# Altium schematic symbol library EEG_SchLib.SchLib: 119 symbols
Pins are listed as number, name and electrical type; pins without a type are passive.

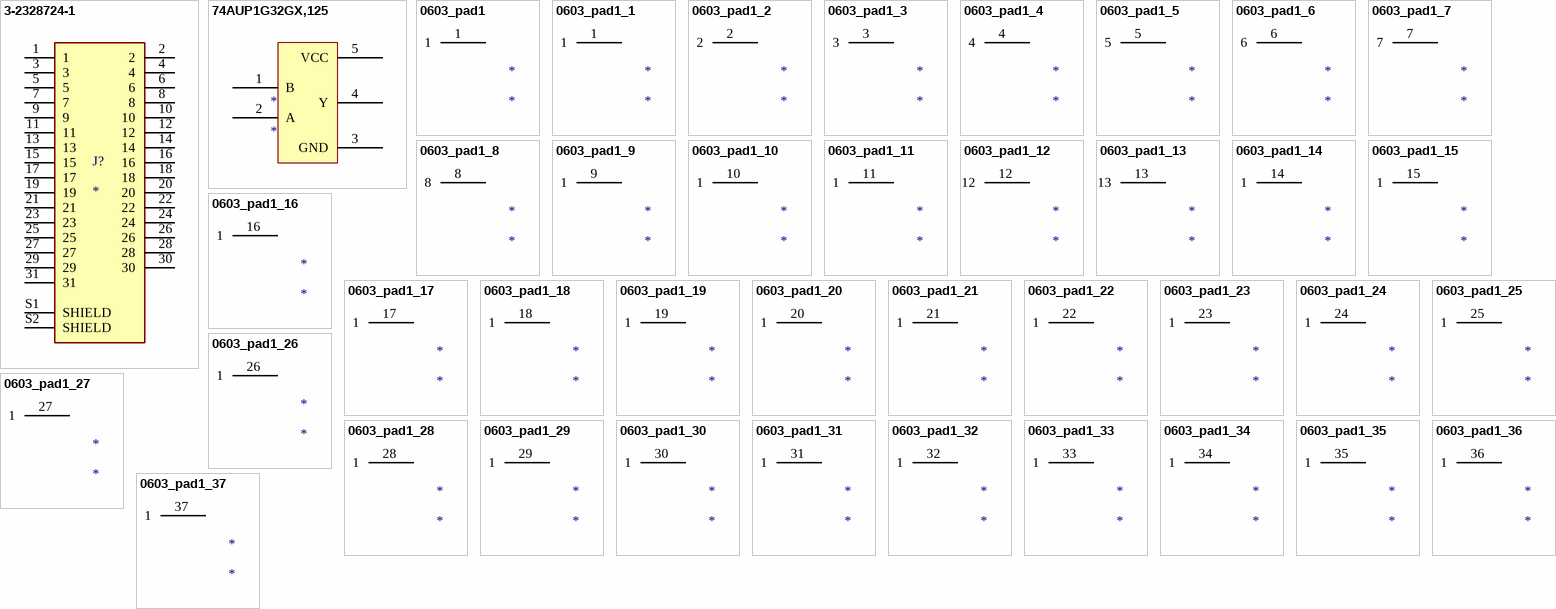
[diagram p0: symbols 3-2328724-1 to 0603_pad1_37]

## 3-2328724-1
designator J?
31 Position FPC Connector Contacts, Bottom 0.012 (0.30mm) Surface Mount, Right Angle; MP: 3-2328724-1; MF: TE Connectivity AMP Connectors; SnapEDA_Link: https://www.snapeda.com/parts/3-2328724-1/TE+Connectivity/view-part/?ref=snap; Price: None; Purchase-URL: https://pricing.snapeda.com/search/part/3-2328724-1/?ref=eda; Package: None; Availability: In Stock; Check_prices: https://www.snapeda.com/parts/3-2328724-1/TE+Connectivity/view-part/?ref=eda; Value: *
footprint TE_3-2328724-1
pins: 1, 2, 3, 4, 5, 6, 7, 8, 9, 10, 11, 12, 13, 14, 15, 16, 17, 18, 19, 20, 21, 22, 23, 24, 25, 26, 27, 28, 29, 30, 31, S1 SHIELD, S2 SHIELD

## 74AUP1G32GX,125
designator *
footprint SOT1226-3
pins: 1 B, 2 A, 3 GND (power), 4 Y, 5 VCC (power)

## 0603_pad1
designator *
footprint 0603_PAD_2 - duplicate1
pins: 1

## 0603_pad1_1
designator *
footprint 0603_PAD_2 - duplicate1
pins: 1

## 0603_pad1_2
designator *
footprint 0603_PAD_2 - duplicate2
pins: 2

## 0603_pad1_3
designator *
footprint 0603_PAD_2 - duplicate3
pins: 3

## 0603_pad1_4
designator *
footprint 0603_PAD_2 - duplicate4
pins: 4

## 0603_pad1_5
designator *
footprint 0603_PAD_2 - duplicate5
pins: 5

## 0603_pad1_6
designator *
footprint 0603_PAD_2 - duplicate6
pins: 6

## 0603_pad1_7
designator *
footprint 0603_PAD_2 - duplicate7
pins: 7

## 0603_pad1_8
designator *
footprint 0603_PAD_2 - duplicate8
pins: 8

## 0603_pad1_9
designator *
footprint 0603_PAD_2 - duplicate9
pins: 9 1

## 0603_pad1_10
designator *
footprint 0603_PAD_2 - duplicate10
pins: 10 1

## 0603_pad1_11
designator *
footprint 0603_PAD_2 - duplicate11
pins: 11 1

## 0603_pad1_12
designator *
footprint 0603_PAD_2 - duplicate12
pins: 12

## 0603_pad1_13
designator *
footprint 0603_PAD_2 - duplicate13
pins: 13

## 0603_pad1_14
designator *
footprint 0603_PAD_2 - duplicate14
pins: 14 1

## 0603_pad1_15
designator *
footprint 0603_PAD_2 - duplicate15
pins: 15 1

## 0603_pad1_16
designator *
footprint 0603_PAD_2 - duplicate16
pins: 16 1

## 0603_pad1_17
designator *
footprint 0603_PAD_2 - duplicate17
pins: 17 1

## 0603_pad1_18
designator *
footprint 0603_PAD_2 - duplicate18
pins: 18 1

## 0603_pad1_19
designator *
footprint 0603_PAD_2 - duplicate19
pins: 19 1

## 0603_pad1_20
designator *
footprint 0603_PAD_2 - duplicate20
pins: 20 1

## 0603_pad1_21
designator *
footprint 0603_PAD_2 - duplicate21
pins: 21 1

## 0603_pad1_22
designator *
footprint 0603_PAD_2 - duplicate22
pins: 22 1

## 0603_pad1_23
designator *
footprint 0603_PAD_2 - duplicate23
pins: 23 1

## 0603_pad1_24
designator *
footprint 0603_PAD_2 - duplicate24
pins: 24 1

## 0603_pad1_25
designator *
footprint 0603_PAD_2 - duplicate25
pins: 25 1

## 0603_pad1_26
designator *
footprint 0603_PAD_2 - duplicate26
pins: 26 1

## 0603_pad1_27
designator *
footprint 0603_PAD_2 - duplicate27
pins: 27 1

## 0603_pad1_28
designator *
footprint 0603_PAD_2 - duplicate28
pins: 28 1

## 0603_pad1_29
designator *
footprint 0603_PAD_2 - duplicate29
pins: 29 1

## 0603_pad1_30
designator *
footprint 0603_PAD_2 - duplicate30
pins: 30 1

## 0603_pad1_31
designator *
footprint 0603_PAD_2 - duplicate31
pins: 31 1

## 0603_pad1_32
designator *
footprint 0603_PAD_2 - duplicate32
pins: 32 1

## 0603_pad1_33
designator *
footprint 0603_PAD_2 - duplicate33
pins: 33 1

## 0603_pad1_34
designator *
footprint 0603_PAD_2 - duplicate34
pins: 34 1

## 0603_pad1_35
designator *
footprint 0603_PAD_2 - duplicate35
pins: 35 1

## 0603_pad1_36
designator *
footprint 0603_PAD_2 - duplicate36
pins: 36 1

## 0603_pad1_37
designator *
footprint 0603_PAD_2 - duplicate37
pins: 37 1

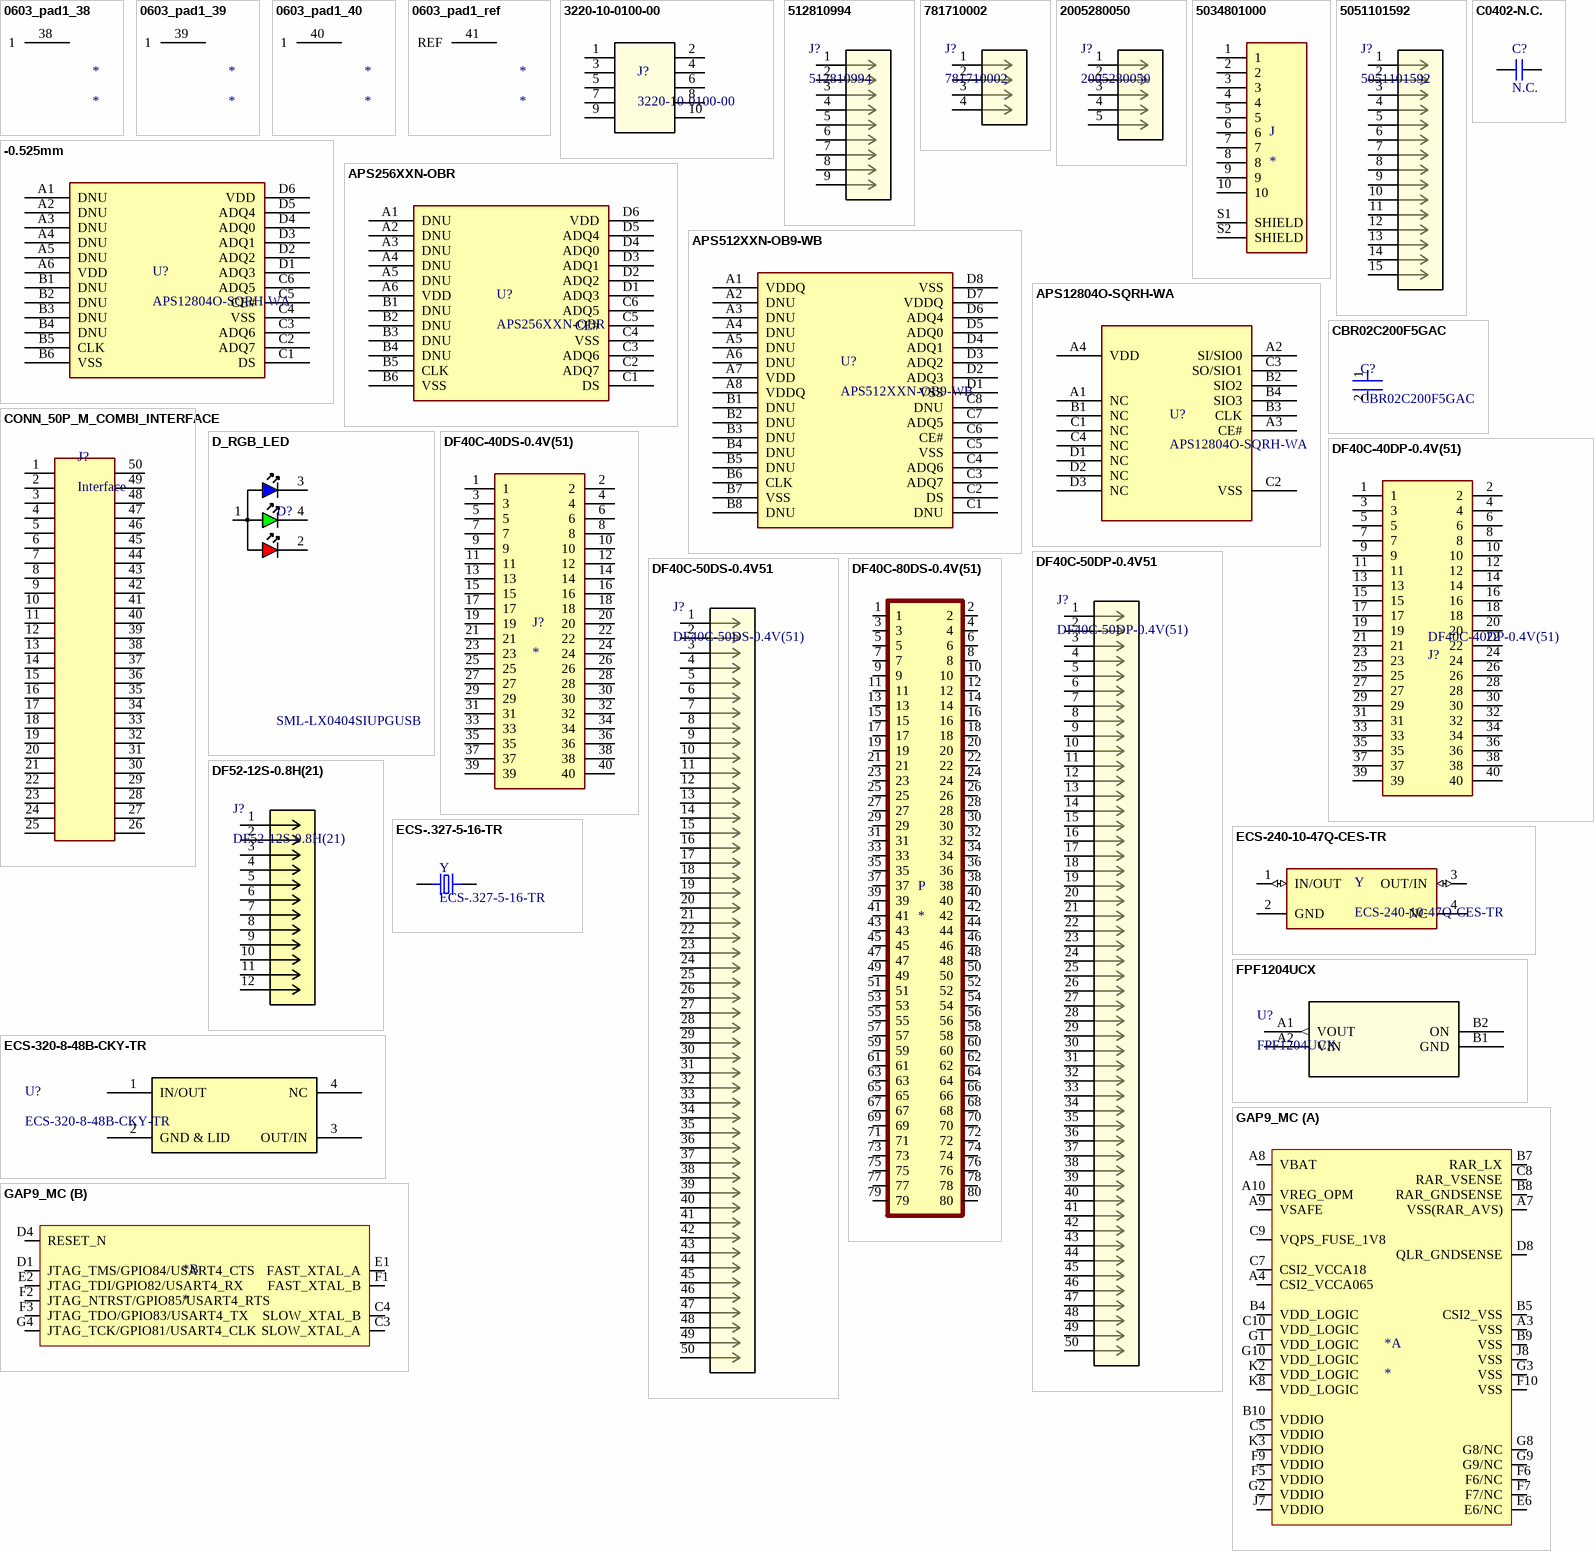
[diagram p1: symbols 0603_pad1_38 to GAP9_MC]

## 0603_pad1_38
designator *
footprint 0603_PAD_2 - duplicate38
pins: 38 1

## 0603_pad1_39
designator *
footprint 0603_PAD_2 - duplicate39
pins: 39 1

## 0603_pad1_40
designator *
footprint 0603_PAD_2 - duplicate40
pins: 40 1

## 0603_pad1_ref
designator *
footprint 0603_PAD_REF
pins: 41 REF

## 3220-10-0100-00
designator J?
No Description Available; Mfr_Name: CNC Tech; Copyright: Copyright (C) 2023 Ultra Librarian. All rights reserved.; Manufacturer_Part_Number: 3220-10-0100-00; RefDes: RefDes; Type: DEV
footprint CONN_3220-10-0100-00_CNC
pins: 1, 2, 3, 4, 5, 6, 7, 8, 9, 10

## 512810994
designator J?
No Description Available; Mfr_Name: Molex Connector Corporation; Copyright: Copyright (C) 2022 Ultra Librarian. All rights reserved.; Manufacturer_Part_Number: 512810994; RefDes: RefDes; Type: DEV
footprint CONN_51281-0994_MOL
pins: 1, 2, 3, 4, 5, 6, 7, 8, 9

## 781710002
designator J?
No Description Available; Mfr_Name: Molex Connector Corporation; Copyright: Copyright (C) 2022 Ultra Librarian. All rights reserved.; Manufacturer_Part_Number: 781710002; RefDes: RefDes; Type: DEV
footprint CON_781710002
pins: 1, 2, 3, 4

## 2005280050
designator J?
No Description Available; Mfr_Name: Molex Connector Corporation; Copyright: Copyright (C) 2022 Ultra Librarian. All rights reserved.; Manufacturer_Part_Number: 2005280050; RefDes: RefDes; Type: DEV
footprint CONN_200528-0050_MOL
pins: 1, 2, 3, 4, 5

## 5034801000
designator J
10 Position FFC, FPC Connector Contacts, Top and Bottom 0.020 _0.50mm_ Surface Mount, Right Angle; MF: Molex; MP: 5034801000; Digi-Key_Part_Number: WM1389CT-ND; Package: None; Digi-Key_Purchase_URL: https://www.digikey.com/product-detail/en/molex/5034801000/WM1389CT-ND/2356643?utm_source=snapeda&utm_medium=aggregator&utm_campaign=symbol; SnapEDA_Link: https://www.snapeda.com/parts/5034801000/Molex/view-part/2746786/?ref=snap; Value: *
footprint MOLEX_5034801000
pins: 1, 2, 3, 4, 5, 6, 7, 8, 9, 10, S1 SHIELD, S2 SHIELD

## 5051101592
designator J?
No Description Available; Mfr_Name: Molex Connector Corporation; Copyright: Copyright (C) 2022 Ultra Librarian. All rights reserved.; Manufacturer_Part_Number: 5051101592; RefDes: RefDes; Type: DEV
footprint CONN_505110-1592_MOL
pins: 1, 2, 3, 4, 5, 6, 7, 8, 9, 10, 11, 12, 13, 14, 15

## -0.525mm
designator U?, comment APS12804O-SQRH-WA
No Description Available; Mfr_Name: AP Memory; Manufacturer_Part_Number: APS256XXN-OBR-BG; Copyright: Copyright (C) 2022 Ultra Librarian. All rights reserved.; RefDes: RefDes; Type: DEV
footprint WLCSP24
pins: A1 DNU, A2 DNU, A3 DNU, A4 DNU, A5 DNU, A6 VDD, B1 DNU, B2 DNU, B3 DNU, B4 DNU, B5 CLK, B6 VSS, C1 DS, C2 ADQ7, C3 ADQ6, C4 VSS, C5 CE#, C6 ADQ5, D1 ADQ3, D2 ADQ2, D3 ADQ1, D4 ADQ0, D5 ADQ4, D6 VDD

## APS256XXN-OBR
designator U?
No Description Available; Mfr_Name: AP Memory; Manufacturer_Part_Number: APS256XXN-OBR-BG; Copyright: Copyright (C) 2022 Ultra Librarian. All rights reserved.; RefDes: RefDes; Type: DEV
footprint WLCSP24
pins: A1 DNU, A2 DNU, A3 DNU, A4 DNU, A5 DNU, A6 VDD, B1 DNU, B2 DNU, B3 DNU, B4 DNU, B5 CLK, B6 VSS, C1 DS, C2 ADQ7, C3 ADQ6, C4 VSS, C5 CE#, C6 ADQ5, D1 ADQ3, D2 ADQ2, D3 ADQ1, D4 ADQ0, D5 ADQ4, D6 VDD

## APS512XXN-OB9-WB
designator U?
512 Mbit octal SPI PSRAM APmemory; Copyright: Copyright (C) 2022 Ultra Librarian. All rights reserved.; Mfr_Name: AP Memory; Manufacturer_Part_Number: APS512XXN-OB9-WB; RefDes: RefDes; Type: DEV
footprint WLCSP32_APS512XXN-OB9-WB
pins: A1 VDDQ, A2 DNU, A3 DNU, A4 DNU, A5 DNU, A6 DNU, A7 VDD, A8 VDDQ, B1 DNU, B2 DNU, B3 DNU, B4 DNU, B5 DNU, B6 CLK, B7 VSS, B8 DNU, C1 DNU, C2 DS, C3 ADQ7, C4 ADQ6, C5 VSS, C6 CE#, C7 ADQ5, C8 DNU, D1 VSS, D2 ADQ3, D3 ADQ2, D4 ADQ1, D5 ADQ0, D6 ADQ4, D7 VDDQ, D8 VSS

## APS12804O-SQRH-WA
designator U?
QSPI PSRAM in WLCSP package / 144 MHz / 128 Mbit; Mfr_Name: AP Memory; Manufacturer_Part_Number: APS12804O-SQRH-WA
footprint APS12804O-SQRH-WA
pins: A1 NC, A2 SI/SIO0, A3 CE#, A4 VDD, B1 NC, B2 SIO2, B3 CLK, B4 SIO3, C1 NC, C2 VSS, C3 SO/SIO1, C4 NC, D1 NC, D2 NC, D3 NC

## C0402-N.C.
designator C?, comment N.C.
Not mounted; Part Number: C0402-N.C.; Note: Chip Cap; Artikkelnr Noca: N.A.; Manufacturer: *; Manufacturer Part Number: *; Datasheet: *; LatestRevisionDate: 2009-05-08; Pin Count: 2; Publisher: Nordic Semiconductor; Published: 2009-05-08; Value: N.C.; Supplier: *; Supplier part number: *; 2nd source Supplier: *; 2nd source part number: *; Footprint Doc: 0402; Artikkelnr Simpro: N.A.
footprint 0402
pins: 1, 2

## CBR02C200F5GAC
designator C?
No Description Available; Mfr_Name: Kemet; Type: DEV; Copyright: Copyright (C) 2022 Ultra Librarian. All rights reserved.; Manufacturer_Part_Number: CBR02C200F5GAC; RefDes: RefDes
footprint CAPC6333_33N_KEM-L
pins: 1, 2

## CONN_50P_M_COMBI_INTERFACE
designator J?, comment Interface
50Pin 0.4mm pitch connector footprint that accepts (male) connectors intended for different stacking heights: / Hirose - DF40C-50DP-0.4V(51) for 1.5mm - 3mm stacking height / JAE - WP7B-P050VA1-R8000 - for 0.7mm stacking height
footprint CONN_COMBI_50P (50Pin 0.4mm pitch connector footprint that accepts (male) connectors intended for different stacking heights:  Hirose - DF40C-50DP-0.4V(51) for 1.5mm - 3mm stacking height , JAE - WP7B-P050VA1-R8000 - for 0.7mm stacking height)
pins: 1, 2, 3, 4, 5, 6, 7, 8, 9, 10, 11, 12, 13, 14, 15, 16, 17, 18, 19, 20, 21, 22, 23, 24, 25, 26, 27, 28, 29, 30, 31, 32, 33, 34, 35, 36, 37, 38, 39, 40, 41, 42, 43, 44, 45, 46, 47, 48, 49, 50

## D_RGB_LED
designator D?, comment SML-LX0404SIUPGUSB
SML-LX0404SIUPGUSB RGB LED; Manufacturer: Lumex; Supplier 1: Mouser; Manufacturer Part Number: SML-LX0404SIUPGUSB; Supplier Part Number 1: 696-LX0404SIUPGUSB
footprint SML-LX0404SIUPGUSB
pins: 1 Common Anode, 2 Red C, 3 Blue C, 4 Green C

## DF40C-40DP-0.4V(51)
designator J?
CONN PLUG 40POS SMD GOLD; Number of Contacts: 40; Gender: Male; Voltage Rating: 30V; Mated Stacking Heights: 4mm; Current Rating: 300mA; Pitch: 0.4mm; Connector Type: Plug; Lead Free: Lead Free; Number of Positions: 40; Packaging: Tape and Reel; Contact Plating: Gold; REACH SVHC: No SVHC; Mount: Surface Mount; Orientation: Straight; Housing Material: Polymer; Termination: SMD/SMT; Min Operating Temperature: -35°C; Number of Rows: 2; Max Operating Temperature: 85°C; Contact Material: Bronze; Package Quantity: 1
footprint FP-DF40C-40DP-0_4V_51-MFG
pins: 1, 2, 3, 4, 5, 6, 7, 8, 9, 10, 11, 12, 13, 14, 15, 16, 17, 18, 19, 20, 21, 22, 23, 24, 25, 26, 27, 28, 29, 30, 31, 32, 33, 34, 35, 36, 37, 38, 39, 40

## DF40C-40DS-0.4V(51)
designator J?
40 Position 0.4mm Pitch Dual Row (2X5) Vertical Surface Mount (SMT) Pin Socket; MP: DF40C-40DS-0.4V(51); Package: None; Availability: Unavailable; Value: *; Price: None
footprint HIROSE_DF40C-40DS-0.4V(51)
pins: 1, 2, 3, 4, 5, 6, 7, 8, 9, 10, 11, 12, 13, 14, 15, 16, 17, 18, 19, 20, 21, 22, 23, 24, 25, 26, 27, 28, 29, 30, 31, 32, 33, 34, 35, 36, 37, 38, 39, 40

## DF40C-50DP-0.4V51
designator J?, comment DF40C-50DP-0.4V(51)
No Description Available; Mfr_Name: Hirose; Copyright: Copyright (C) 2023 Ultra Librarian. All rights reserved.; Manufacturer_Part_Number: DF40C-50DP-0.4V(51); RefDes: RefDes; Type: DEV
footprint CONN50_6p6X2p9_hdr_HIR
pins: 1, 2, 3, 4, 5, 6, 7, 8, 9, 10, 11, 12, 13, 14, 15, 16, 17, 18, 19, 20, 21, 22, 23, 24, 25, 26, 27, 28, 29, 30, 31, 32, 33, 34, 35, 36, 37, 38, 39, 40, 41, 42, 43, 44, 45, 46, 47, 48, 49, 50

## DF40C-50DS-0.4V51
designator J?, comment DF40C-50DS-0.4V(51)
No Description Available; Mfr_Name: Hirose; Copyright: Copyright (C) 2023 Ultra Librarian. All rights reserved.; Manufacturer_Part_Number: DF40C-50DS-0.4V(51); RefDes: RefDes; Type: DEV
footprint CONN50_12p6X2p9_HIR
pins: 1, 2, 3, 4, 5, 6, 7, 8, 9, 10, 11, 12, 13, 14, 15, 16, 17, 18, 19, 20, 21, 22, 23, 24, 25, 26, 27, 28, 29, 30, 31, 32, 33, 34, 35, 36, 37, 38, 39, 40, 41, 42, 43, 44, 45, 46, 47, 48, 49, 50

## DF40C-80DS-0.4V(51)
designator P
80 Position Connector Receptacle, Center Strip Contacts Surface Mount Gold; MF: Hirose; MP: DF40C-80DS-0.4V_51_; Value: *; SnapEDA_Link: https://www.snapeda.com/parts/DF40C-80DS-0.4V%2851%29/Hirose%20Electric%20Co%20Ltd/view-part/175723/?ref=snap; Digi-Key_Purchase_URL: https://www.digikey.com/product-detail/en/hirose-electric-co-ltd/DF40C-80DS-0.4V_51_/H11633CT-ND/1969512?utm_source=snapeda&utm_medium=aggregator&utm_campaign=symbol; Digi-Key_Part_Number: H11633CT-ND; Package: None
footprint HRS_DF40C-80DS-0.4V(51)
pins: 1, 2, 3, 4, 5, 6, 7, 8, 9, 10, 11, 12, 13, 14, 15, 16, 17, 18, 19, 20, 21, 22, 23, 24, 25, 26, 27, 28, 29, 30, 31, 32, 33, 34, 35, 36, 37, 38, 39, 40, 41, 42, 43, 44, 45, 46, 47, 48, 49, 50, 51, 52, 53, 54, 55, 56, 57, 58, 59, 60, 61, 62, 63, 64, 65, 66, 67, 68, 69, 70, 71, 72, 73, 74, 75, 76, 77, 78, 79, 80

## DF52-12S-0.8H(21)
designator J?
No Description Available; Mfr_Name: Hirose; Copyright: Copyright (C) 2022 Ultra Librarian. All rights reserved.; Manufacturer_Part_Number: DF52-12S-0.8H(21); RefDes: RefDes; Type: DEV
footprint CONN_DF52-12S-0.8H(21)_HIR
pins: 1, 2, 3, 4, 5, 6, 7, 8, 9, 10, 11, 12

## ECS-240-10-47Q-CES-TR
designator Y
24MHz Â±10ppm Crystal 10pF 150 Ohms 4-SMD, No Lead; MF: ECS Inc.; Value: *; SnapEDA_Link: https://www.snapeda.com/parts/ECS-240-10-47Q-CES-TR/ECS%20Inc./view-part/4221464/?ref=snap; Price: None; Availability: Unavailable; Package: SMD-4 ECS International; MP: ECS-240-10-47Q-CES-TR
footprint XTAL_ECS-240-10-47Q-CES-TR
pins: 1 IN/OUT (io), 2 GND, 3 OUT/IN (io), 4 NC

## ECS-320-8-48B-CKY-TR
designator U?
No Description Available; Mfr_Name: ECS International; Copyright: Copyright (C) 2022 Ultra Librarian. All rights reserved.; Manufacturer_Part_Number: ECS-320-8-48B-CKY-TR; RefDes: RefDes; Type: DEV
footprint ECS-320-8-48B-CKY-TR_ECS-L
pins: 1 IN/OUT, 2 GND & LID, 3 OUT/IN, 4 NC

## ECS-.327-5-16-TR
designator Y
32.768kHz Â±20ppm Crystal 9pF 90 kOhms 2-SMD, No Lead; MF: ECS Inc.; MP: ECS-.327-9-16-TR; Value: *; SnapEDA_Link: https://www.snapeda.com/parts/ECS-.327-9-16-TR/ECS%20Inc./view-part/620864/?ref=snap; DigiKey-Purchase-URL: https://snapeda.com/shop?store=DigiKey&id=620864; Package: SMD-2 ECS International; Digi-Key_Part_Number: XC2132CT-ND
footprint XTAL_ECS-.327-5-16-TR
pins: 1, 2

## FPF1204UCX
designator U?
No Description Available; Mfr_Name: onsemi; Copyright: Copyright (C) 2022 Ultra Librarian. All rights reserved.; Manufacturer_Part_Number: FPF1204UCX; RefDes: RefDes; Type: DEV
footprint WLCSP4_P7XP7_ONS
pins: A1 VOUT (out), A2 VIN, B1 GND, B2 ON

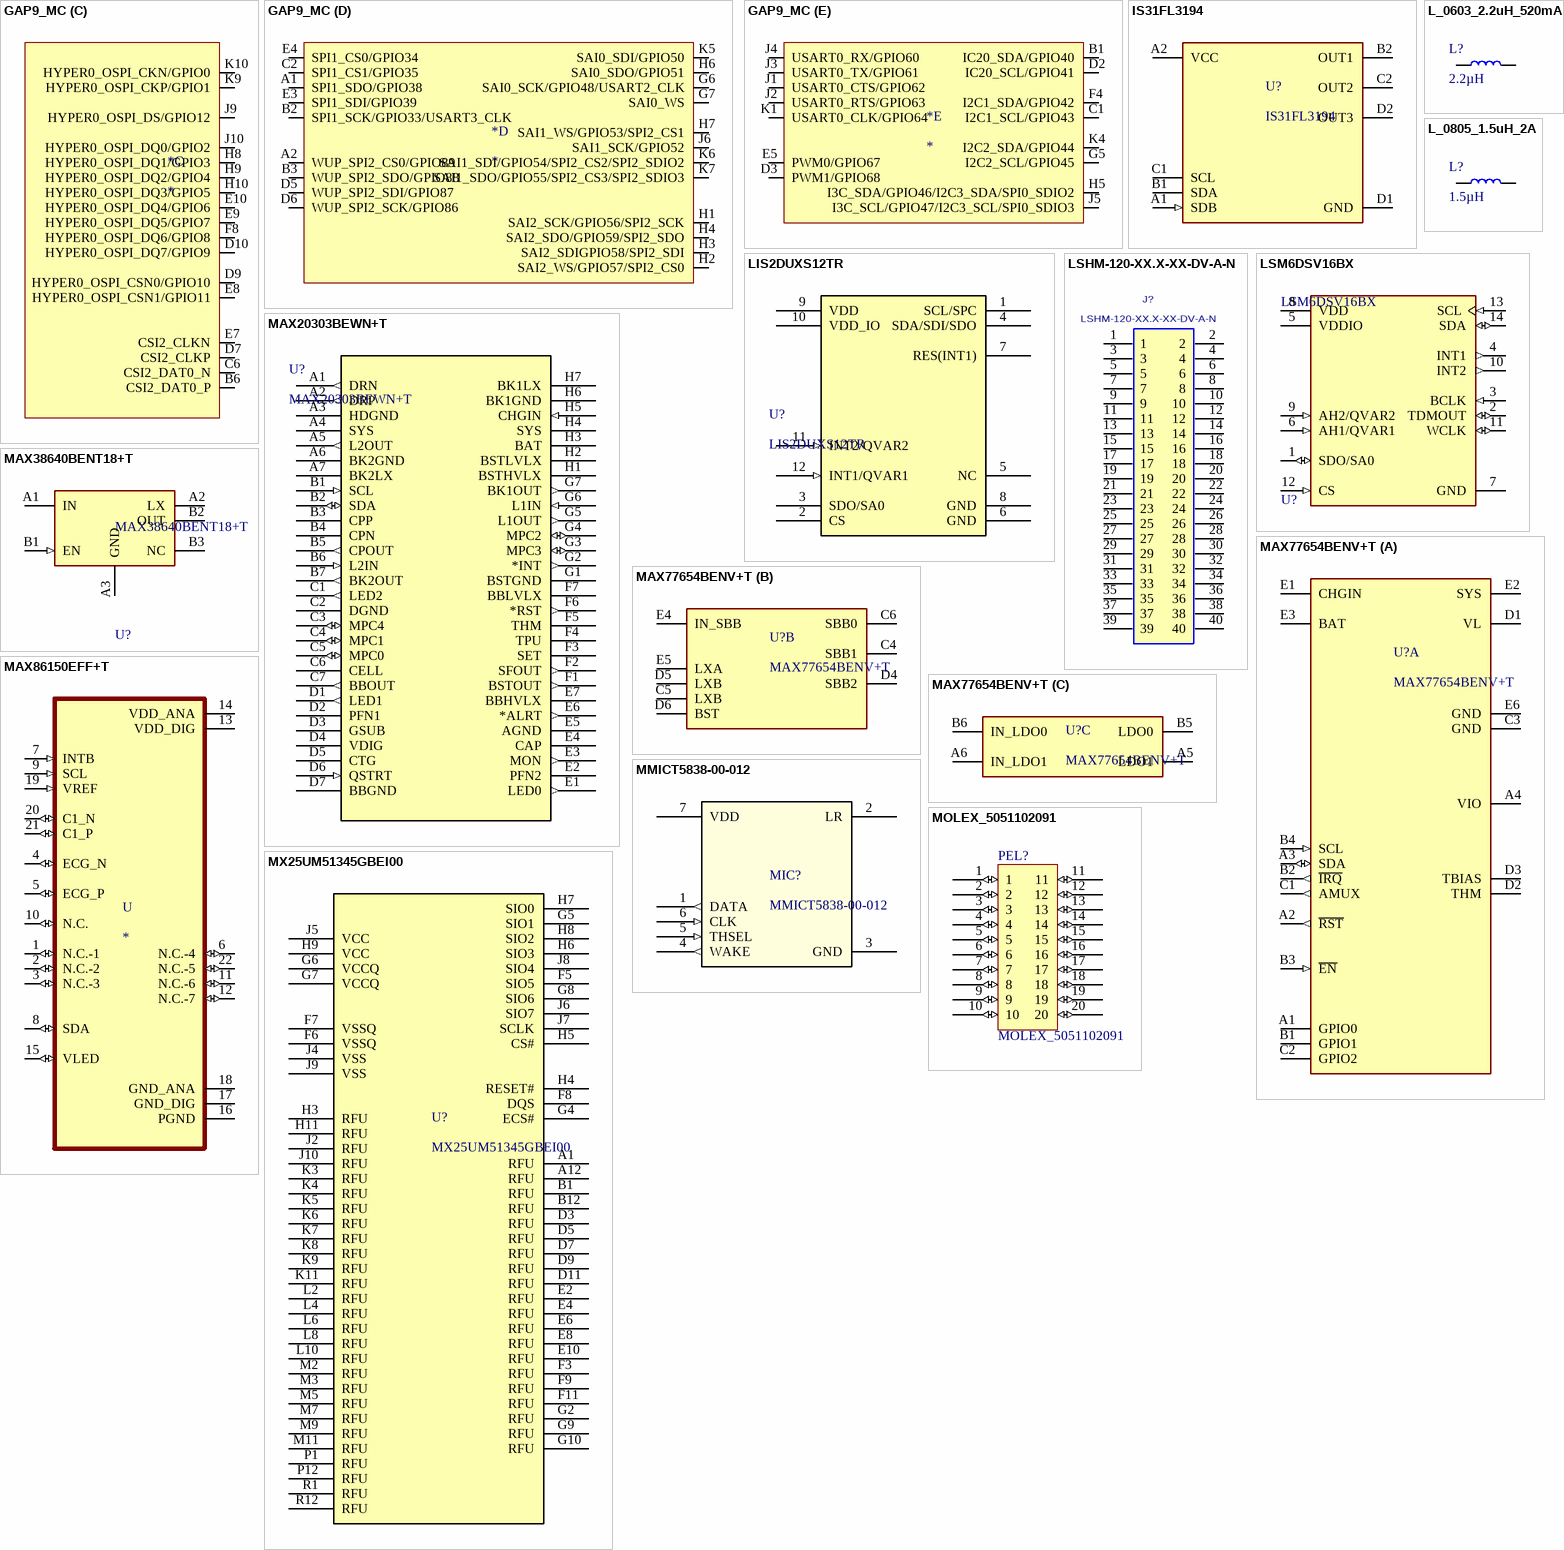
[diagram p2: symbols GAP9_MC to MX25UM51345GBEI00]

## GAP9_MC
designator *
footprint GAP9
part A pins: A3 VSS, A4 CSI2_VCCA065, A7 VSS(RAR_AVS), A8 VBAT, A9 VSAFE, A10 VREG_OPM, B4 VDD_LOGIC, B5 CSI2_VSS, B7 RAR_LX, B8 RAR_GNDSENSE, B9 VSS, B10 VDDIO, C5 VDDIO, C7 CSI2_VCCA18, C8 RAR_VSENSE, C9 VQPS_FUSE_1V8, C10 VDD_LOGIC, D8 QLR_GNDSENSE, E6 E6/NC, F5 VDDIO, F6 F6/NC, F7 F7/NC, F9 VDDIO, F10 VSS, G1 VDD_LOGIC, G2 VDDIO, G3 VSS, G8 G8/NC, G9 G9/NC, G10 VDD_LOGIC, J7 VDDIO, J8 VSS, K2 VDD_LOGIC, K3 VDDIO, K8 VDD_LOGIC
part B pins: C3 SLOW_XTAL_A, C4 SLOW_XTAL_B, D1 JTAG_TMS/GPIO84/USART4_CTS, D4 RESET_N, E1 FAST_XTAL_A, E2 JTAG_TDI/GPIO82/USART4_RX, F1 FAST_XTAL_B, F2 JTAG_NTRST/GPIO85/USART4_RTS, F3 JTAG_TDO/GPIO83/USART4_TX, G4 JTAG_TCK/GPIO81/USART4_CLK
part C pins: B6 CSI2_DAT0_P, C6 CSI2_DAT0_N, D7 CSI2_CLKP, D9 HYPER0_OSPI_CSN0/GPIO10, D10 HYPER0_OSPI_DQ7/GPIO9, E7 CSI2_CLKN, E8 HYPER0_OSPI_CSN1/GPIO11, E9 HYPER0_OSPI_DQ5/GPIO7, E10 HYPER0_OSPI_DQ4/GPIO6, F8 HYPER0_OSPI_DQ6/GPIO8, H8 HYPER0_OSPI_DQ1/GPIO3, H9 HYPER0_OSPI_DQ2/GPIO4, H10 HYPER0_OSPI_DQ3/GPIO5, J9 HYPER0_OSPI_DS/GPIO12, J10 HYPER0_OSPI_DQ0/GPIO2, K9 HYPER0_OSPI_CKP/GPIO1, K10 HYPER0_OSPI_CKN/GPIO0
part D pins: A1 SPI1_SDO/GPIO38, A2 WUP_SPI2_CS0/GPIO89, B2 SPI1_SCK/GPIO33/USART3_CLK, B3 WUP_SPI2_SDO/GPIO88, C2 SPI1_CS1/GPIO35, D5 WUP_SPI2_SDI/GPIO87, D6 WUP_SPI2_SCK/GPIO86, E3 SPI1_SDI/GPIO39, E4 SPI1_CS0/GPIO34, G6 SAI0_SCK/GPIO48/USART2_CLK, G7 SAI0_WS, H1 SAI2_SCK/GPIO56/SPI2_SCK, H2 SAI2_WS/GPIO57/SPI2_CS0, H3 SAI2_SDIGPIO58/SPI2_SDI, H4 SAI2_SDO/GPIO59/SPI2_SDO, H6 SAI0_SDO/GPIO51, H7 SAI1_WS/GPIO53/SPI2_CS1, J6 SAI1_SCK/GPIO52, K5 SAI0_SDI/GPIO50, K6 SAI1_SDI/GPIO54/SPI2_CS2/SPI2_SDIO2, K7 SAI1_SDO/GPIO55/SPI2_CS3/SPI2_SDIO3
part E pins: B1 IC20_SDA/GPIO40, C1 I2C1_SCL/GPIO43, D2 IC20_SCL/GPIO41, D3 PWM1/GPIO68, E5 PWM0/GPIO67, F4 I2C1_SDA/GPIO42, G5 I2C2_SCL/GPIO45, H5 I3C_SDA/GPIO46/I2C3_SDA/SPI0_SDIO2, J1 USART0_CTS/GPIO62, J2 USART0_RTS/GPIO63, J3 USART0_TX/GPIO61, J4 USART0_RX/GPIO60, J5 I3C_SCL/GPIO47/I2C3_SCL/SPI0_SDIO3, K1 USART0_CLK/GPIO64, K4 I2C2_SDA/GPIO44

## IS31FL3194
designator U?
LED Driver with Programmable Pattern Sequencing 3-Channel 40mA 8-Pin WCSP T/R; Manufacturer: ISSI; Manufacturer Part Number: IS31FL3194-CLS2-TR; Supplier 1: Digi-Key; Supplier Part Number 1: 2521-IS31FL3194-CLS2-TRCT-ND
footprint WLCSP_8_P0.4
pins: A1 SDB (in), A2 VCC (power), B1 SDA (oc), B2 OUT1 (oc), C1 SCL (oc), C2 OUT2 (oc), D1 GND (power), D2 OUT3 (oc)

## L_0603_2.2uH_520mA
designator L?, comment 2.2µH
L 2.2uH 520mA 0603; Manufacturer: Taiyo Yuden; Manufacturer Part Number: MBKK1608T2R2M; Supplier 1: Mouser; Supplier Part Number 1: 963-MBKK1608T2R2M
footprint IND_0603 (0603 Inductor)
pins: 1, 2

## L_0805_1.5uH_2A
designator L?, comment 1.5µH
L 1.5uH 2A 0805; Manufacturer: Murata; Manufacturer Part Number: DFE201210S-1R5M=P2; Supplier 1: Mouser; Supplier Part Number 1: 81-DFE201210S-1R5MP2
footprint IND_0805_DFE201210S (0805 Inductor)
pins: 1, 2

## LIS2DUXS12TR
designator U?
No Description Available; Mfr_Name: STMicroelectronics; Type: DEV; Copyright: Copyright (C) 2023 Ultra Librarian. All rights reserved.; Manufacturer_Part_Number: LIS2DUXS12TR; RefDes: RefDes
footprint QFN_DUXS12_STM
pins: 1 SCL/SPC, 2 CS, 3 SDO/SA0, 4 SDA/SDI/SDO, 5 NC, 6 GND (power), 7 RES(INT1), 8 GND (power), 9 VDD (power), 10 VDD_IO (power), 11 INT2/QVAR2 (in), 12 INT1/QVAR1 (in)

## LSHM-120-XX.X-XX-DV-A-N
designator J?
0.5MM TERMINAL/SOCKET COMBO, 40PINS.; MANUFACTURER: SAMTEC; CREATED: 08 SEP. 2012 - WENDY XIN; PCB DECAL: LSHM-120-XX.X-XX-DV-A-N
footprint LSHM-120-XX.X-XX-DV-A-N
pins: 1, 2, 3, 4, 5, 6, 7, 8, 9, 10, 11, 12, 13, 14, 15, 16, 17, 18, 19, 20, 21, 22, 23, 24, 25, 26, 27, 28, 29, 30, 31, 32, 33, 34, 35, 36, 37, 38, 39, 40

## LSM6DSV16BX
designator U?
IMU ACCEL/GYRO I2C/SPI 14LGA; Manufacturer: STMicroelectronics; Manufacturer Part Number: LSM6DSV16BX; Supplier 1: Mouser; Supplier Part Number 1: 511-LSM6DSV16BXTR
footprint LGA-14_STM (LG1-14 package of STM comatible with various components)
pins: 1 SDO/SA0 (io), 2 TDMOUT (io), 3 BCLK (in), 4 INT1 (out), 5 VDDIO (power), 6 AH1/QVAR1 (in), 7 GND (power), 8 VDD (power), 9 AH2/QVAR2 (in), 10 INT2 (out), 11 WCLK (io), 12 CS (in), 13 SCL (in), 14 SDA (io)

## MAX20303BEWN+T
designator U?
No Description Available; Mfr_Name: Maxim Integrated Products; Copyright: Copyright (C) 2022 Ultra Librarian. All rights reserved.; Manufacturer_Part_Number: MAX20303BEWN+T; RefDes: RefDes; Type: DEV
footprint 21-100104A_W563A4+1_MXM
pins: A1 DRN (out), A2 DRP (out), A3 HDGND (power), A4 SYS, A5 L2OUT (out), A6 BK2GND (power), A7 BK2LX, B1 SCL (in), B2 SDA (io), B3 CPP, B4 CPN, B5 CPOUT (out), B6 L2IN (in), B7 BK2OUT (out), C1 LED2 (out), C2 DGND (power), C3 MPC4 (io), C4 MPC1 (io), C5 MPC0 (io), C6 CELL, C7 BBOUT (out), D1 LED1 (out), D2 PFN1, D3 GSUB, D4 VDIG, D5 CTG, D6 QSTRT (in), D7 BBGND (power), E1 LED0 (out), E2 PFN2, E3 MON (out), E4 CAP, E5 AGND (power), E6 *ALRT (out), E7 BBHVLX, F1 BSTOUT (out), F2 SFOUT (out), F3 SET, F4 TPU, F5 THM, F6 *RST (out), F7 BBLVLX, G1 BSTGND (power), G2 *INT (out), G3 MPC3 (io), G4 MPC2 (io), G5 L1OUT (out), G6 L1IN (in), G7 BK1OUT (out), H1 BSTHVLX, H2 BSTLVLX, H3 BAT, H4 SYS, H5 CHGIN (in), H6 BK1GND (power), H7 BK1LX

## MAX38640BENT18+T
designator U?
Buck Switching Regulator IC Positive Fixed 1.8V 1 Output 175mA 6-WLP; Manufacturer: Maxim; Supplier 1: Mouser; Supplier Part Number 1: 700-MAX38640BENT18T; Manufacturer Part Number: MAX38640BENT18+T
footprint THIN_WLP_6_MAX38640
pins: A1 IN (power), A2 LX, A3 GND (power), B1 EN (in), B2 OUT, B3 NC

## MAX77654BENV+T
designator U?
Buck-Boost Converter With LDO Regulator 5-OUT 30-Pin WLP T/R; Manufacturer: Maxim; Manufacturer Part Number: MAX77654BENV+T; Supplier 1: Mouser; Supplier Part Number 1: 700-MAX77654BENV+T
footprint WLP_30_MAX77654
part A pins: A1 GPIO0, A2 ~{RST} (out), A3 SDA (io), A4 VIO (power), B1 GPIO1, B2 ~{IRQ} (out), B3 ~{EN} (in), B4 SCL (in), C1 AMUX (out), C2 GPIO2, C3 GND (power), D1 VL, D2 THM, D3 TBIAS, E1 CHGIN (oe), E2 SYS (power), E3 BAT (power), E6 GND (power)
part B pins: C4 SBB1 (power), C5 LXB, C6 SBB0 (power), D4 SBB2 (power), D5 LXB, D6 BST (power), E4 IN_SBB (power), E5 LXA
part C pins: A5 LDO1 (power), A6 IN_LDO1 (power), B5 LDO0 (power), B6 IN_LDO0 (power)

## MAX86150EFF+T
designator U
Oximeter/Heart Rate Sensor IÂ²C Output; MF: Maxim Integrated; MP: MAX86150EFF+T; Value: *; SnapEDA_Link: https://www.snapeda.com/parts/MAX86150EFF%2BT/Maxim%20Integrated/view-part/2766727/?ref=snap; Price: None; Availability: Unavailable; Package: OLGA-22 Maxim
footprint XDCR_MAX86150EFF+
pins: 1 N.C.-1 (io), 2 N.C.-2 (io), 3 N.C.-3 (io), 4 ECG_N (io), 5 ECG_P (io), 6 N.C.-4 (io), 7 INTB (in), 8 SDA (io), 9 SCL (in), 10 N.C. (io), 11 N.C.-6 (io), 12 N.C.-7 (io), 13 VDD_DIG (power), 14 VDD_ANA (power), 15 VLED (io), 16 PGND (power), 17 GND_DIG (power), 18 GND_ANA (power), 19 VREF (in), 20 C1_N (io), 21 C1_P (io), 22 N.C.-5 (io)

## MMICT5838-00-012
designator MIC?
No Description Available; Mfr_Name: InvenSense; Copyright: Copyright (C) 2023 Ultra Librarian. All rights reserved.; Manufacturer_Part_Number: MMICT5838-00-012; RefDes: RefDes; Type: DEV
footprint MMICT5838-00-012
pins: 1 DATA (out), 2 LR, 3 GND (power), 4 WAKE (out), 5 THSEL (in), 6 CLK (in), 7 VDD (power)

## MOLEX_5051102091
designator PEL?
footprint MOLEX_5051102091
pins: 1 (io), 2 (io), 3 (io), 4 (io), 5 (io), 6 (io), 7 (io), 8 (io), 9 (io), 10 (io), 11 (io), 12 (io), 13 (io), 14 (io), 15 (io), 16 (io), 17 (io), 18 (io), 19 (io), 20 (io)

## MX25UM51345GBEI00
designator U?
Macronix 512 Mbit WLCSP Flash
footprint MX25UM51345GBEI00 (WLCSP 68 512 Mbit Flash)
pins: A1 RFU, A12 RFU, B1 RFU, B12 RFU, D3 RFU, D5 RFU, D7 RFU, D9 RFU, D11 RFU, E2 RFU, E4 RFU, E6 RFU, E8 RFU, E10 RFU, F3 RFU, F5 SIO5, F6 VSSQ, F7 VSSQ, F8 DQS, F9 RFU, F11 RFU, G2 RFU, G4 ECS#, G5 SIO1, G6 VCCQ, G7 VCCQ, G8 SIO6, G9 RFU, G10 RFU, H3 RFU, H4 RESET#, H5 CS#, H6 SIO3, H7 SIO0, H8 SIO2, H9 VCC, H11 RFU, J2 RFU, J4 VSS, J5 VCC, J6 SIO7, J7 SCLK, J8 SIO4, J9 VSS, J10 RFU, K3 RFU, K4 RFU, K5 RFU, K6 RFU, K7 RFU, K8 RFU, K9 RFU, K11 RFU, L2 RFU, L4 RFU, L6 RFU, L8 RFU, L10 RFU, M2 RFU, M3 RFU, M5 RFU, M7 RFU, M9 RFU, M11 RFU, P1 RFU, P12 RFU, R1 RFU, R12 RFU

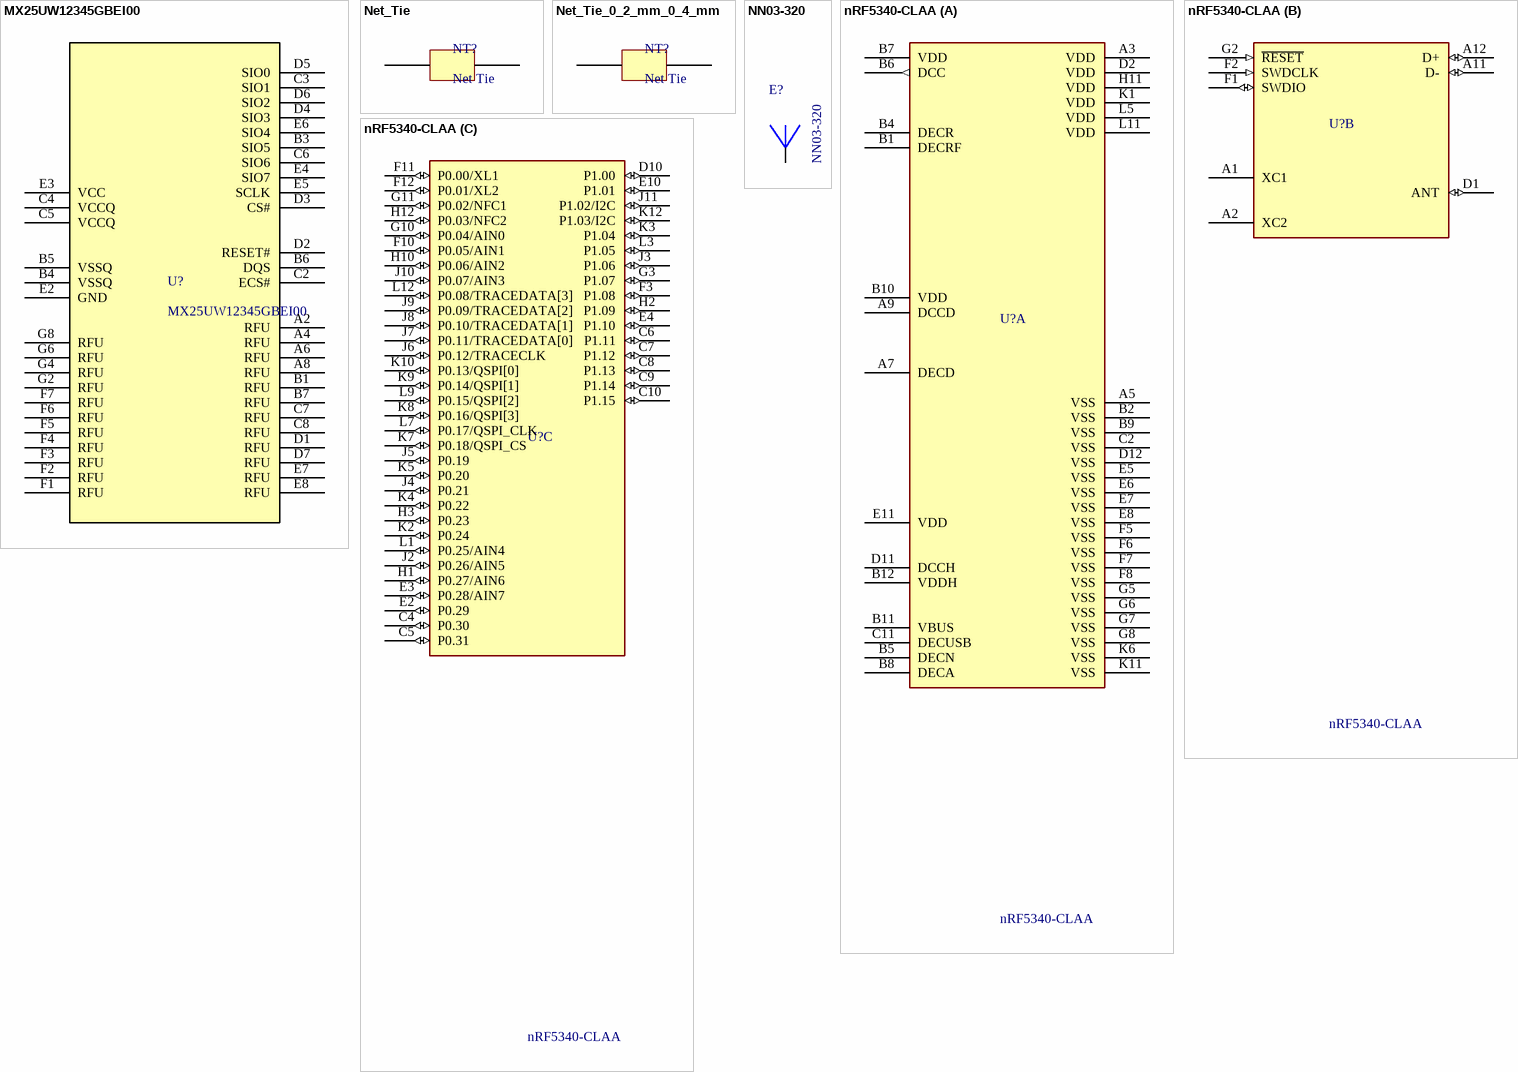
[diagram p3: symbols MX25UW12345GBEI00 to nRF5340-CLAA]

## MX25UW12345GBEI00
designator U?
Macronix 128 Mbit PSRAM
footprint MX25UW12345GBEI00 (128Mbit Flash)
pins: A2 RFU, A4 RFU, A6 RFU, A8 RFU, B1 RFU, B3 SIO5, B4 VSSQ, B5 VSSQ, B6 DQS, B7 RFU, C2 ECS#, C3 SIO1, C4 VCCQ, C5 VCCQ, C6 SIO6, C7 RFU, C8 RFU, D1 RFU, D2 RESET#, D3 CS#, D4 SIO3, D5 SIO0, D6 SIO2, D7 RFU, E2 GND, E3 VCC, E4 SIO7, E5 SCLK, E6 SIO4, E7 RFU, E8 RFU, F1 RFU, F2 RFU, F3 RFU, F4 RFU, F5 RFU, F6 RFU, F7 RFU, G2 RFU, G4 RFU, G6 RFU, G8 RFU

## Net_Tie
designator NT?, comment Net Tie  (net tie, no BOM)
footprint Net_Tie_Top_Bottom
pins: 1, 2

## Net_Tie_0_2_mm_0_4_mm
designator NT?, comment Net Tie  (net tie, no BOM)
footprint Net_Tie_Top_Bottom0_4mm_0_2mm
pins: 1, 2

## NN03-320
designator E?
Integrated Chip Antenna; Manufacturer: Fractus Antennas; Supplier 1: Mouser; Manufacturer Part Number: NN03-320; Supplier Part Number 1: 128-NN03-320
footprint NN03-320
pins: 1

## nRF5340-CLAA
designator U?
Multi-protocol Bluetooth Low Energy, IEEE 802.15.4, ANT and 2.4GHz proprietary system-on-chip; Manufacturer: Nordic; Manufacturer Part Number: NRF5340-CLAA-R7; Supplier 1: Mouser; Supplier Part Number 1: 949-NRF5340-CLAA-R7
footprint NRF5340_WLCSP
part A pins: A3 VDD (power), A5 VSS (power), A7 DECD (power), A9 DCCD (power), B1 DECRF (power), B2 VSS (power), B4 DECR (power), B5 DECN (power), B6 DCC (out), B7 VDD (power), B8 DECA (power), B9 VSS (power), B10 VDD (power), B11 VBUS (power), B12 VDDH (power), C2 VSS (power), C11 DECUSB (power), D2 VDD (power), D11 DCCH (power), D12 VSS (power), E5 VSS (power), E6 VSS (power), E7 VSS (power), E8 VSS (power), E11 VDD (power), F5 VSS (power), F6 VSS (power), F7 VSS (power), F8 VSS (power), G5 VSS (power), G6 VSS (power), G7 VSS (power), G8 VSS (power), H11 VDD (power), K1 VDD (power), K6 VSS (power), K11 VSS (power), L5 VDD (power), L11 VDD (power)
part B pins: A1 XC1, A2 XC2, A11 D- (io), A12 D+ (io), D1 ANT (io), F1 SWDIO (io), F2 SWDCLK (in), G2 ~{RESET} (in)
part C pins: C4 P0.30 (io), C5 P0.31 (io), C6 P1.11 (io), C7 P1.12 (io), C8 P1.13 (io), C9 P1.14 (io), C10 P1.15 (io), D10 P1.00 (io), E2 P0.29 (io), E3 P0.28/AIN7 (io), E4 P1.10 (io), E10 P1.01 (io), F3 P1.08 (io), F10 P0.05/AIN1 (io), F11 P0.00/XL1 (io), F12 P0.01/XL2 (io), G3 P1.07 (io), G10 P0.04/AIN0 (io), G11 P0.02/NFC1 (io), H1 P0.27/AIN6 (io), H2 P1.09 (io), H3 P0.23 (io), H10 P0.06/AIN2 (io), H12 P0.03/NFC2 (io), J2 P0.26/AIN5 (io), J3 P1.06 (io), J4 P0.21 (io), J5 P0.19 (io), J6 P0.12/TRACECLK (io), J7 P0.11/TRACEDATA[0] (io), J8 P0.10/TRACEDATA[1] (io), J9 P0.09/TRACEDATA[2] (io), J10 P0.07/AIN3 (io), J11 P1.02/I2C (io), K2 P0.24 (io), K3 P1.04 (io), K4 P0.22 (io), K5 P0.20 (io), K7 P0.18/QSPI_CS (io), K8 P0.16/QSPI[3] (io), K9 P0.14/QSPI[1] (io), K10 P0.13/QSPI[0] (io), K12 P1.03/I2C (io), L1 P0.25/AIN4 (io), L3 P1.05 (io), L7 P0.17/QSPI_CLK (io), L9 P0.15/QSPI[2] (io), L12 P0.08/TRACEDATA[3] (io)

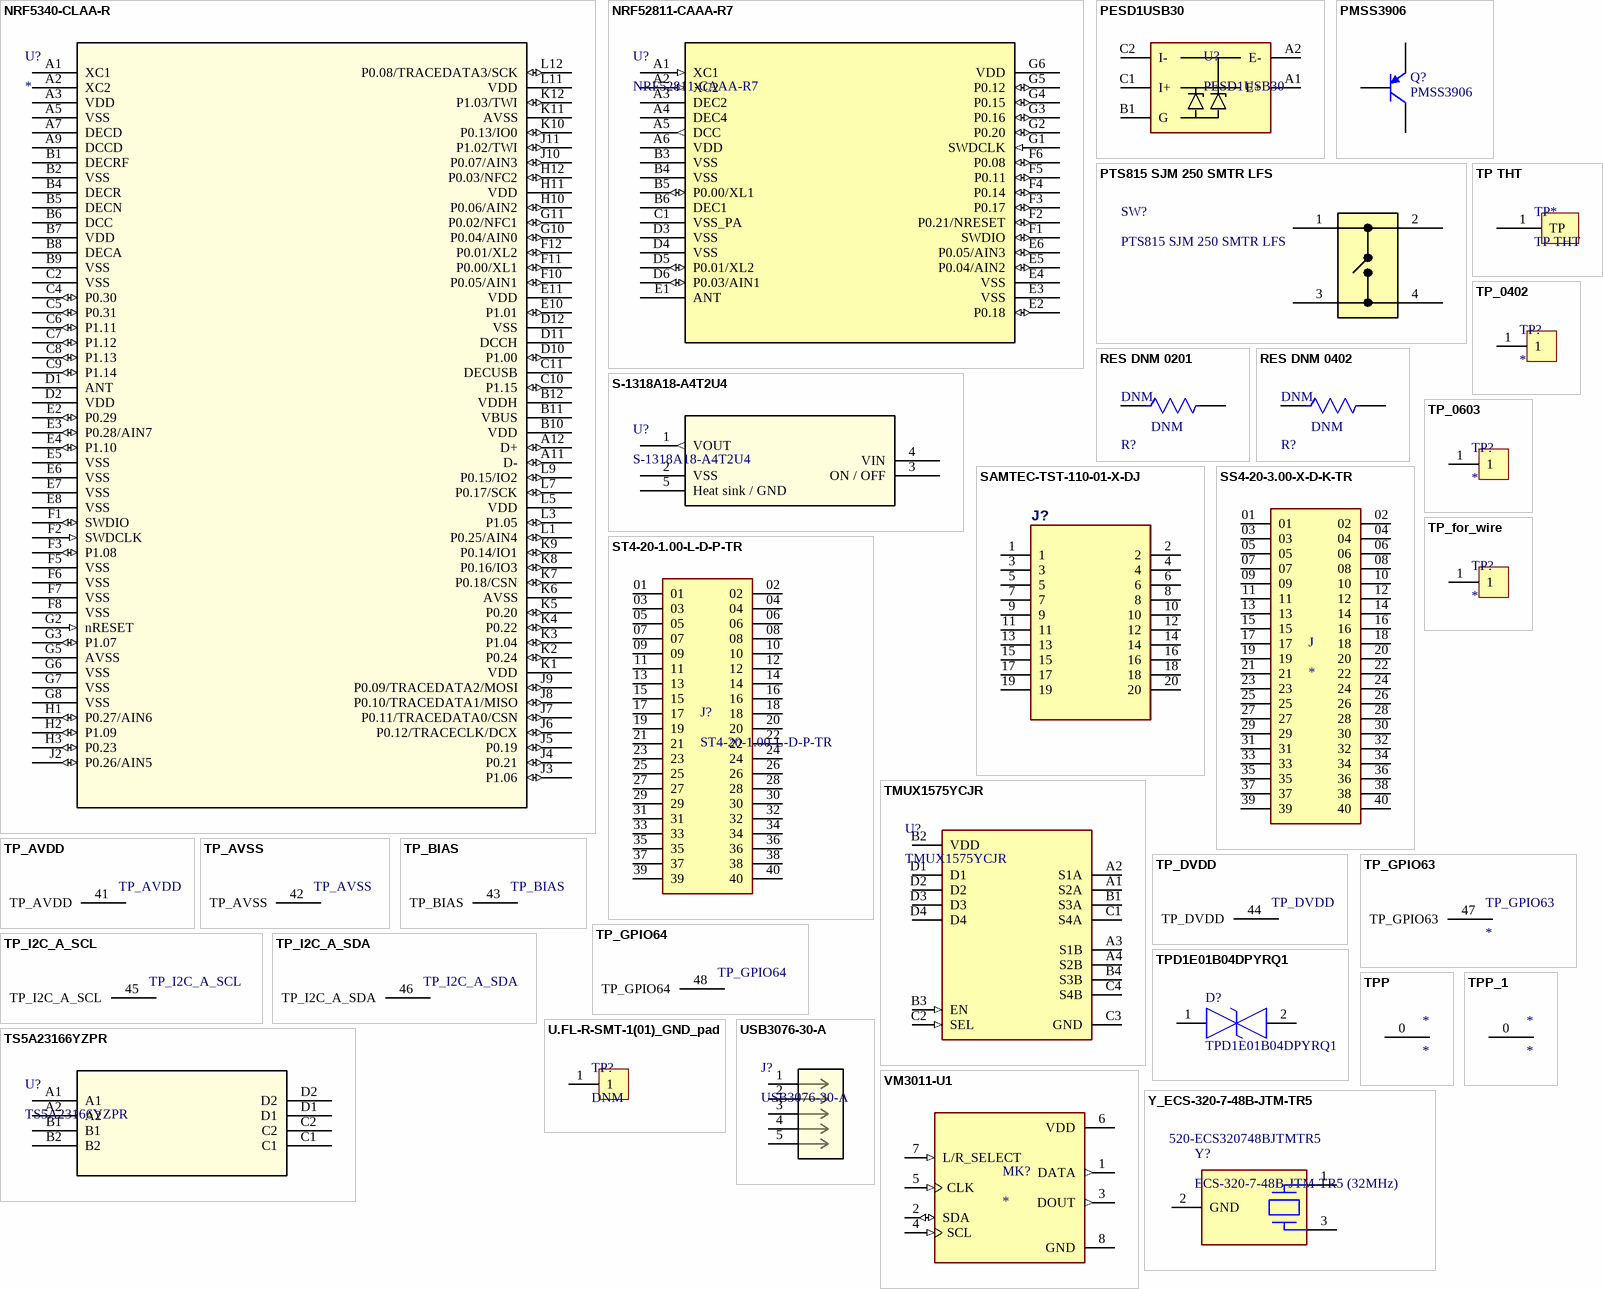
[diagram p4: symbols NRF5340-CLAA-R to Y_ECS-320-7-48B-JTM-TR5]

## NRF5340-CLAA-R
designator U?
No Description Available; Mfr_Name: Nordic Semiconductor; RefDes: RefDes; Type: Type
footprint WLCSP95_4.390X3.994_NOR
pins: A1 XC1, A2 XC2, A3 VDD (power), A5 VSS (power), A7 DECD (power), A9 DCCD (power), A11 D- (io), A12 D+ (io), B1 DECRF (power), B2 VSS (power), B4 DECR (power), B5 DECN (power), B6 DCC (power), B7 VDD (power), B8 DECA (power), B9 VSS (power), B10 VDD (power), B11 VBUS (power), B12 VDDH (power), C2 VSS (power), C4 P0.30 (io), C5 P0.31 (io), C6 P1.11 (io), C7 P1.12 (io), C8 P1.13 (io), C9 P1.14 (io), C10 P1.15 (io), C11 DECUSB (power), D1 ANT, D2 VDD (power), D10 P1.00 (io), D11 DCCH (power), D12 VSS (power), E2 P0.29 (io), E3 P0.28/AIN7 (io), E4 P1.10 (io), E5 VSS (power), E6 VSS (power), E7 VSS (power), E8 VSS (power), E10 P1.01 (io), E11 VDD (power), F1 SWDIO (io), F2 SWDCLK (in), F3 P1.08 (io), F5 VSS (power), F6 VSS (power), F7 VSS (power), F8 VSS (power), F10 P0.05/AIN1 (io), F11 P0.00/XL1 (io), F12 P0.01/XL2 (io), G2 nRESET (in), G3 P1.07 (io), G5 AVSS (power), G6 VSS (power), G7 VSS (power), G8 VSS (power), G10 P0.04/AIN0 (io), G11 P0.02/NFC1 (io), H1 P0.27/AIN6 (io), H2 P1.09 (io), H3 P0.23 (io), H10 P0.06/AIN2 (io), H11 VDD (power), H12 P0.03/NFC2 (io), J2 P0.26/AIN5 (io), J3 P1.06 (io), J4 P0.21 (io), J5 P0.19 (io), J6 P0.12/TRACECLK/DCX (io), J7 P0.11/TRACEDATA0/CSN (io), J8 P0.10/TRACEDATA1/MISO (io), J9 P0.09/TRACEDATA2/MOSI (io), J10 P0.07/AIN3 (io), J11 P1.02/TWI (io), K1 VDD (power), K2 P0.24 (io), K3 P1.04 (io), K4 P0.22 (io), K5 P0.20 (io), K6 AVSS (power), K7 P0.18/CSN (io), K8 P0.16/IO3 (io), K9 P0.14/IO1 (io), K10 P0.13/IO0 (io), K11 AVSS (power), K12 P1.03/TWI (io), L1 P0.25/AIN4 (io), L3 P1.05 (io), L5 VDD (power), L7 P0.17/SCK (io), L9 P0.15/IO2 (io), L11 VDD (power), L12 P0.08/TRACEDATA3/SCK (io)

## NRF52811-CAAA-R7
designator U?
No Description Available; Mfr_Name: Nordic Semiconductor; Copyright: Copyright (C) 2022 Ultra Librarian. All rights reserved.; Manufacturer_Part_Number: NRF52811-CAAA-R7; RefDes: RefDes; Type: DEV
footprint BGA33C40P6X6_247X246X50 (BGA, 33-Leads, Body 2.47x2.46mmx0.50mm, Pitch 0.40mm)
pins: A1 XC1 (in), A2 XC2 (in), A3 DEC2, A4 DEC4, A5 DCC (out), A6 VDD (power), B3 VSS (power), B4 VSS (power), B5 P0.00/XL1 (io), B6 DEC1, C1 VSS_PA (power), D3 VSS (power), D4 VSS (power), D5 P0.01/XL2 (io), D6 P0.03/AIN1 (io), E1 ANT, E2 P0.18 (io), E3 VSS (power), E4 VSS (power), E5 P0.04/AIN2 (io), E6 P0.05/AIN3 (io), F1 SWDIO (io), F2 P0.21/NRESET (io), F3 P0.17 (io), F4 P0.14 (io), F5 P0.11 (io), F6 P0.08 (io), G1 SWDCLK (in), G2 P0.20 (io), G3 P0.16 (io), G4 P0.15 (io), G5 P0.12 (io), G6 VDD (power)

## PESD1USB30
designator U?
ESD Suppressor Diode TVS Uni-Dir 5V 5-Pin WLCSP T/R; Manufacturer: NXP Semiconductors; Manufacturer Part Number: PESD1USB30; Supplier 1: Mouser; Supplier Part Number 1: 771-PESD1USB30Z
footprint WLCSP_5_2-1-2_P0.4
pins: A1 E+, A2 E-, B1 G, C1 I+, C2 I-

## PMSS3906
designator Q?
PNP Switching Transistor; Published: 17-Sep-2003; LatestRevisionDate: 12-Dec-2006; LatestRevisionNote: IPC-7351 Footprint Added.; DatasheetVersion: 22-Apr-1999; PackageVersion: Apr-1999; PackageReference: SOT323; Publisher: Altium Limited; PackageDescription: 3-Pin SOT-323 Package 0.65 mm Pitch, 2.1 mm Lead Span; ComponentLink1Description: Manufacturer Link; ComponentLink1URL: http://www.semiconductors.philips.com/; ComponentLink2Description: Datasheet; ComponentLink2URL: http://www.semiconductors.philips.com/acrobat/datasheets/PMSS3906_4.pdf
simulation model QPMSS3906 (PNP)
signal-integrity model PMSS3906
footprint SOT323_N
pins: 1 B, 2 E, 3 C

## PTS815 SJM 250 SMTR LFS
designator SW?
No Description Available; Mfr_Name: C&K Components; Copyright: Copyright (C) 2023 Ultra Librarian. All rights reserved.; Manufacturer_Part_Number: PTS815 SJM 250 SMTR LFS; RefDes: RefDes; Type: DEV
footprint SW4_PTS815 SJM 250 SMTR LFS_CNK
pins: 1, 2, 3, 4

## RES DNM 0201
designator R?, comment DNM
Resistor; Value: DNM
footprint 0201
pins: 1, 2

## RES DNM 0402
designator R?, comment DNM
Resistor; Value: DNM
footprint 0402
pins: 1, 2

## S-1318A18-A4T2U4
designator U?
No Description Available; Mfr_Name: ABLIC; Copyright: Copyright (C) 2022 Ultra Librarian. All rights reserved.; Manufacturer_Part_Number: S-1318A18-A4T2U4; RefDes: RefDes; Type: DEV
footprint SMD04_HSNT_1X1_ABL
pins: 1 VOUT (out), 2 VSS, 3 ON / OFF, 4 VIN, 5 Heat sink / GND

## SAMTEC-TST-110-01-X-DJ
designator J?
GateName_1: A; SymbolName_1: SAMTEC-TST-110-01-X-DA; DeviceName: J; DeviceSetName: SAMTEC-TST-110-01-X-D; LibraryName: SAMTEC-TST-110-01-X-D; Package: SAMTEC-TST-110-01-X-D
footprint SAMTEC-TST-110-01-X-D
pins: 1, 2, 3, 4, 5, 6, 7, 8, 9, 10, 11, 12, 13, 14, 15, 16, 17, 18, 19, 20

## SS4-20-3.00-X-D-K-TR
designator J
40 Position Connector Socket, Outer Shroud Contacts Surface Mount Gold; MP: SS4-20-3.00-X-D-K-TR; MF: Samtec Inc.; Package: None; Value: *; Price: None; Availability: Unavailable
footprint SAMTEC_SS4-20-3.00-X-D-K-TR
pins: 01, 02, 03, 04, 05, 06, 07, 08, 09, 10, 11, 12, 13, 14, 15, 16, 17, 18, 19, 20, 21, 22, 23, 24, 25, 26, 27, 28, 29, 30, 31, 32, 33, 34, 35, 36, 37, 38, 39, 40

## ST4-20-1.00-L-D-P-TR
designator J?
0.4mm[.016] TERMINAL STRIP ASSEMBLY; MP: ST4-20-2.50-L-D-P-TR; Price: None; Value: *; Package: None; Availability: Unavailable
footprint SAMTEC_ST4-20-1.00-L-D-P-TR
pins: 01, 02, 03, 04, 05, 06, 07, 08, 09, 10, 11, 12, 13, 14, 15, 16, 17, 18, 19, 20, 21, 22, 23, 24, 25, 26, 27, 28, 29, 30, 31, 32, 33, 34, 35, 36, 37, 38, 39, 40

## TMUX1575YCJR
designator U?
2:1 (SPDT) 4-channel, powered-off protection switch with 1.8-V logic; Manufacturer: Texas Instruments; Supplier 1: Mouser; Supplier Part Number 1: 595-TMUX1575YCJR; Manufacturer Part Number: TMUX1575YCJR
footprint TI_BSBGA_YCJ0016
pins: A1 S2A, A2 S1A, A3 S1B, A4 S2B, B1 S3A, B2 VDD (power), B3 EN (in), B4 S3B, C1 S4A, C2 SEL (in), C3 GND (power), C4 S4B, D1, D2, D3, D4

## TP THT
designator TP*
footprint TEST_POINT_KEYSTONE_5007_TRAD (Point de test)
pins: 1 TP

## TP_0402
designator TP?
footprint 0402_PAD
pins: 1

## TP_0603
designator TP?
footprint 0603_PAD
pins: 1

## TP_AVDD
designator TP_AVDD  (value not drawn)
footprint TP_AVDD
pins: 41 TP_AVDD

## TP_AVSS
designator TP_AVSS  (value not drawn)
footprint TP_AVSS
pins: 42 TP_AVSS

## TP_BIAS
designator TP_BIAS  (value not drawn)
footprint TP_BIAS
pins: 43 TP_BIAS

## TP_DVDD
designator TP_DVDD  (value not drawn)
footprint TP_DVDD
pins: 44 TP_DVDD

## TP_for_wire
designator TP?
footprint TP_for_wire
pins: 1

## TP_GPIO63
designator TP_GPIO63
footprint TP_GPIO63
pins: 47 TP_GPIO63

## TP_GPIO64
designator TP_GPIO64  (value not drawn)
footprint TP_GPIO64
pins: 48 TP_GPIO64

## TP_I2C_A_SCL
designator TP_I2C_A_SCL  (value not drawn)
footprint TP_I2C_A_SCL
pins: 45 TP_I2C_A_SCL

## TP_I2C_A_SDA
designator TP_I2C_A_SDA  (value not drawn)
footprint TP_I2C_A_SDA
pins: 46 TP_I2C_A_SDA

## TPD1E01B04DPYRQ1
designator D?
TVS Diode (Bi-directional); Manufacturer_Name: Texas Instruments; Datasheet Link: https://www.ti.com/lit/ds/symlink/tpd1e01b04-q1.pdf?ts=1677834076075&ref_url=https%253A%252F%252Fwww.ti.com%252Fproduct%252FTPD1E01B04-Q1%252Fpart-details%252FTPD1E01B04DPYRQ1; Height: 0.45mm; Manufacturer_Part_Number: TPD1E01B04DPYRQ1; Mouser Part Number: 595-TPD1E01B04DPYRQ1; Mouser Price/Stock: https://www.mouser.co.uk/ProductDetail/Texas-Instruments/TPD1E01B04DPYRQ1?qs=doiCPypUmgEwTnvBpZhkOw%3D%3D; Arrow Part Number: TPD1E01B04DPYRQ1; Arrow Price/Stock: https://www.arrow.com/en/products/tpd1e01b04dpyrq1/texas-instruments?region=nac
footprint TPD1E01B04DPYRQ1
pins: 1, 2

## TPP
designator *
footprint TPP
pins: 0 2

## TPP_1
designator *
footprint TPP - duplicate
pins: 0 2

## TS5A23166YZPR
designator U?
No Description Available; Mfr_Name: Texas Instruments; Copyright: Copyright (C) 2023 Ultra Librarian. All rights reserved.; Manufacturer_Part_Number: TS5A23166YZPR; RefDes: RefDes; Type: DEV
footprint YZP8
pins: A1, A2, B1, B2, C1, C2, D1, D2

## U.FL-R-SMT-1(01)_GND_pad
designator TP?, comment DNM
footprint U.FL-R-SMT-1(01)_GND_pad_small
pins: 1

## USB3076-30-A
designator J?
No Description Available; Mfr_Name: Global Connector Technology; Copyright: Copyright (C) 2023 Ultra Librarian. All rights reserved.; Manufacturer_Part_Number: USB3076-30-A; RefDes: RefDes; Type: DEV
footprint CONN_USB3076-30-A_GCT
pins: 1, 2, 3, 4, 5

## VM3011-U1
designator MK?
100 Hz ~ 10 kHz Digital, PDM Microphone MEMS (Silicon) 1.6 V ~ 3.6 V Omnidirectional (-26dB Â±1dB @ 94dB SPL) Solder Pads; MP: VM3011-U1; MF: Vesper; SnapEDA_Link: https://www.snapeda.com/parts/VM3011-U1/Vesper/view-part/?ref=snap; Availability: In Stock; Package: None; Price: None; Value: *; Check_prices: https://www.snapeda.com/parts/VM3011-U1/Vesper/view-part/?ref=eda; Purchase-URL: https://pricing.snapeda.com/search/part/VM3011-U1/?ref=eda
footprint MIC_VM3011-U1
pins: 1 DATA (out), 2 SDA (io), 3 DOUT (out), 4 SCL (in), 5 CLK (in), 6 VDD (power), 7 L/R_SELECT (in), 8 GND (power)

## Y_ECS-320-7-48B-JTM-TR5
designator Y?, comment ECS-320-7-48B-JTM-TR5 (32MHz)  Supplier Part Number 1: 520-ECS320748BJTMTR5
Crystal 32MHz 7pF ±20ppm ±20ppm 4-Pin Ultraminiature CSMD T/R; Manufacturer: ECS International; Manufacturer Part Number: ECS-320-7-48B-JTM-TR5; Supplier 1: Mouser
footprint Y_ECX-1048
pins: 1, 2 GND (power), 3